# Altium footprint library SMA.PcbLib: 1 footprints
Each footprint in its own frame and in the unit in brackets; x right, y up, seen from the top. Pads: shape width x height; smd on the part's side, far side on the other; paste and mask are expansions set on the pad; w line width, h text height; cw(c..) or ccw(c..) is an arc to the next point about the centre after c.
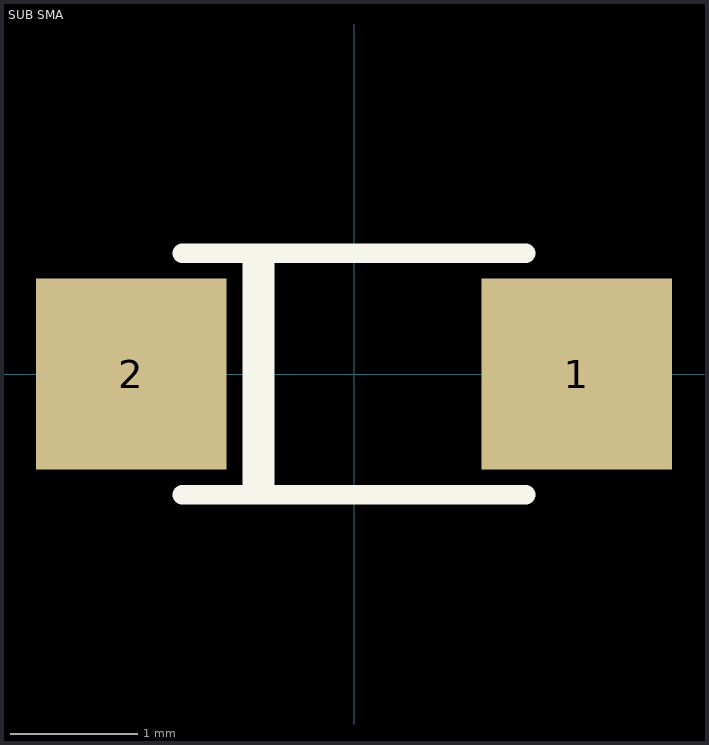
[diagram p0: the footprint, top view; thin cyan lines are the x and y axes]

## SUB SMA [mm] "SUB SMA (MINI SMA) (TSMC S1GL) (Bourns Mini-SMA CD1607-B1X0)"
height 1.5
pads (2):
  rect 1.5x1.5 smd: 1(1.75,0) 2(-1.75,0)
Top Overlay:
  lines w0.152: -1.35,-0.95 1.35,-0.95 ; -1.35,0.95 1.35,0.95 ; -0.8,-0.95 -0.8,0.95 ; -0.7,-0.95 -0.7,0.95
3D body: height 1.5, standoff 0.03, extent -1.4,-0.8 1.4,0.8